# Altium footprint library PcbLib1.PcbLib: 64 footprints (part 4 of 4)
Each footprint in its own frame and in the unit in brackets; x right, y up, seen from the top. Pads: shape width x height; smd on the part's side, far side on the other; paste and mask are expansions set on the pad; w line width, h text height; cw(c..) or ccw(c..) is an arc to the next point about the centre after c.
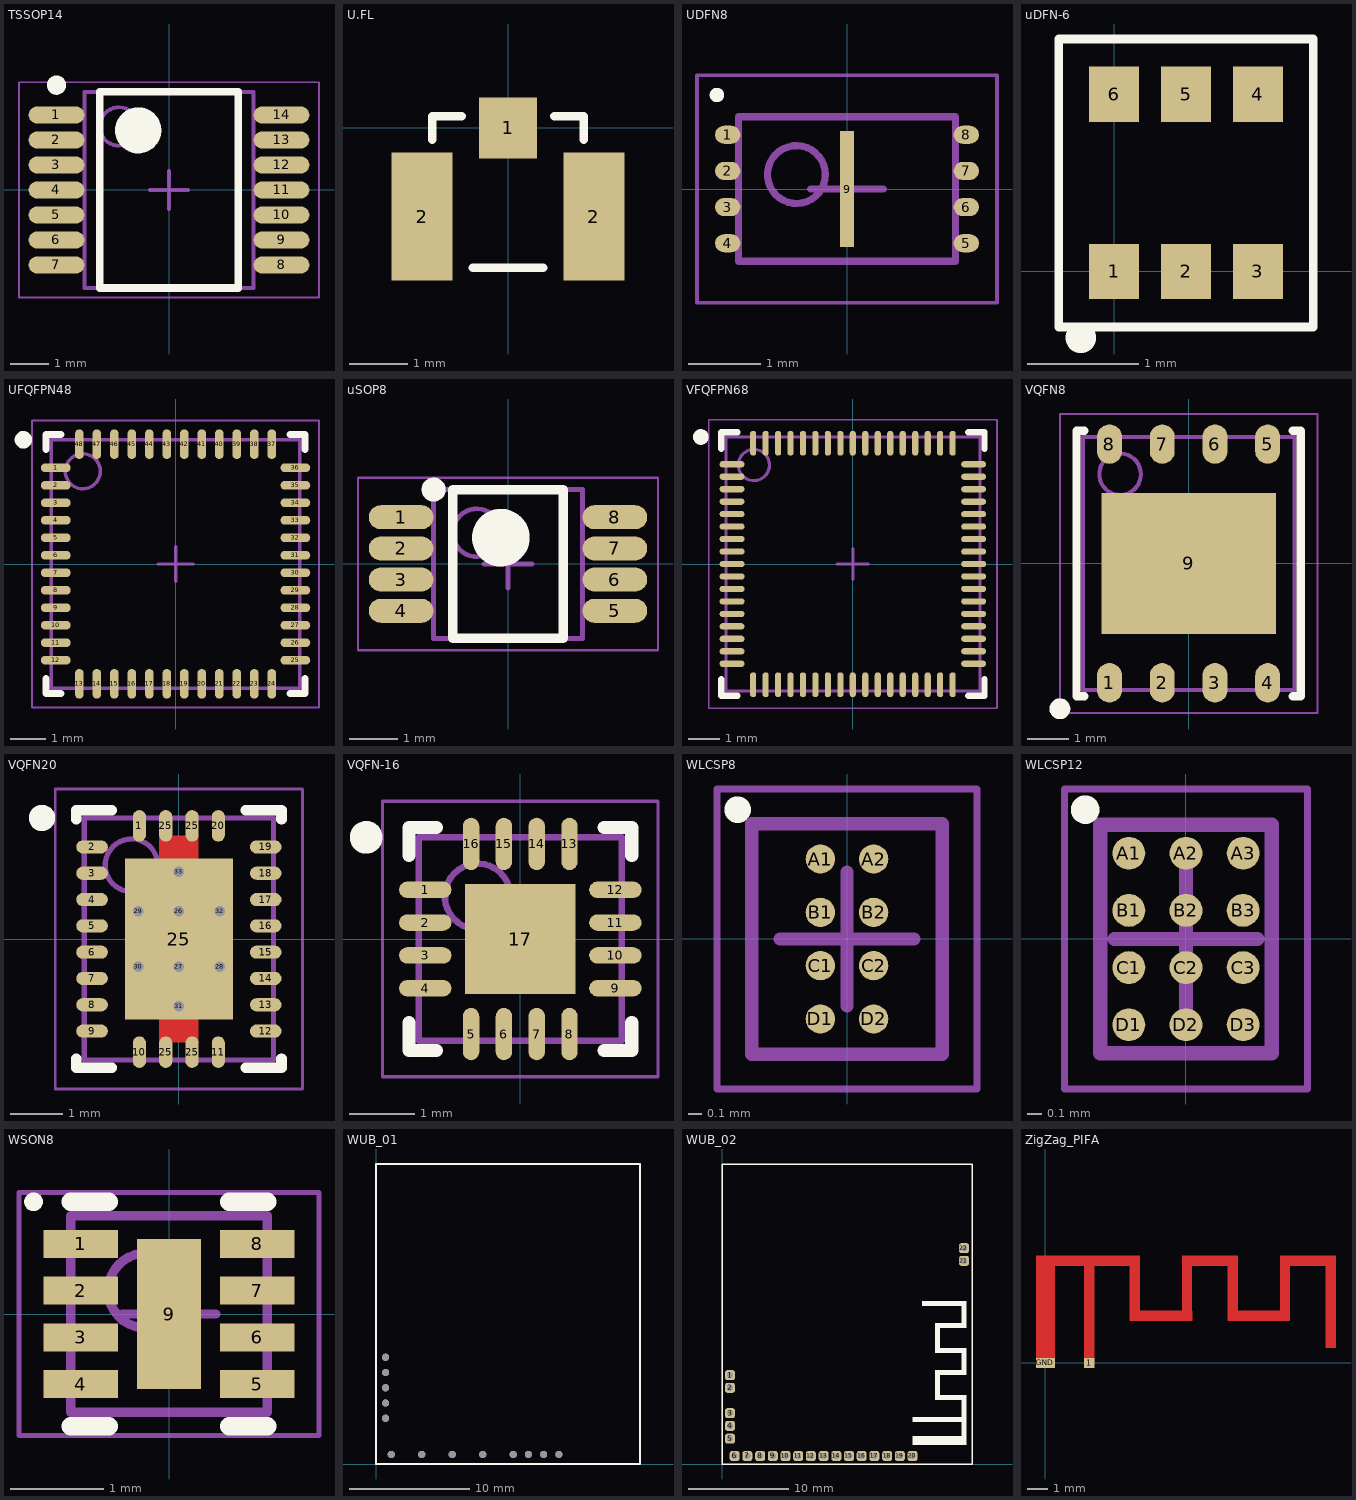
[diagram p3: the footprints below, top view; thin cyan lines are the x and y axes]

## TSSOP14 [mm] "TSSOP14"
height 1.1
pads (14):
  oval 1.45x0.45 smd: 1(-2.925,1.95) 2(-2.925,1.3) 3(-2.925,0.65) 4(-2.925,0) 5(-2.925,-0.65) 6(-2.925,-1.3) 7(-2.925,-1.95) 8(2.925,-1.95) 9(2.925,-1.3) 10(2.925,-0.65) 11(2.925,0) 12(2.925,0.65) 13(2.925,1.3) 14(2.925,1.95)
Top Overlay:
  circle w0.25: c-2.925,2.725 r0.125
  circle w0.6: c-0.8,1.55 r0.3
  lines w0.2: -1.8,-2.55 -1.8,2.55 1.8,2.55 1.8,-2.55 -1.8,-2.55
Mechanical 13:
  circle w0.1: c-1.3,1.65 r0.5
  lines w0.1: -2.2,-2.55 -2.2,2.55 2.2,2.55 2.2,-2.55 -2.2,-2.55
Mechanical 15:
  lines w0.05: -3.9,-2.8 -3.9,2.8 3.9,2.8 3.9,-2.8 -3.9,-2.8
  lines w0.1: -0.5,0 0.5,0 ; 0,-0.5 0,0.5
3D body: height 1.1, standoff 0.05, extent -2.2,-2.55 2.2,2.55

## U.FL [mm]
pads (3):
  rect 1x1.05 smd: 1(0,0)
  rect 1.05x2.2 smd: 2(-1.475,-1.525) 2(1.475,-1.525)
Top Overlay:
  lines w0.15: -1.3,-0.2 -1.3,0.2 -0.8,0.2 ; -0.6,-2.4 0.6,-2.4 ; 0.8,0.2 1.3,0.2 1.3,-0.2

## UDFN8 [mm]
height 0.55
pads (9):
  oval 0.35x0.25 smd: 1(-1.65,0.75) 2(-1.65,0.25) 3(-1.65,-0.25) 4(-1.65,-0.75) 5(1.65,-0.75) 6(1.65,-0.25) 7(1.65,0.25) 8(1.65,0.75)
  rect 0.2x1.6 smd: 9(0,0)
Top Overlay:
  circle w0.1: c-1.8,1.3 r0.05
Mechanical 13:
  circle w0.1: c-0.7,0.2 r0.4
  lines w0.1: -1.5,-1 1.5,-1 1.5,1 -1.5,1 -1.5,-1
Mechanical 15:
  lines w0.05: -2.075,-1.575 2.075,-1.575 2.075,1.575 -2.075,1.575 -2.075,-1.575
  lines w0.1: -0.5,0 0.5,0 ; 0,-0.5 0,0.5
3D body: height 0.55, standoff 0.02, extent -1.5,-1 1.5,1

## uDFN-6 [mm]
pads (6):
  rect 0.45x0.5 smd: 1(0,0) 2(0.65,0) 3(1.3,0) 4(1.3,1.6) 5(0.65,1.6) 6(0,1.6)
Top Overlay:
  circle w0.254: c-0.3,-0.6 r0.01
  lines w0.08: -0.5,-0.5 -0.5,2.1 1.8,2.1 1.8,-0.5 -0.5,-0.5

## UFQFPN48 [mm] "UFQFPN48"
height 0.55
pads (48):
  oval 0.85x0.25 smd: 1(-3.425,2.75) 2(-3.425,2.25) 3(-3.425,1.75) 4(-3.425,1.25) 5(-3.425,0.75) 6(-3.425,0.25) 7(-3.425,-0.25) 8(-3.425,-0.75) 9(-3.425,-1.25) 10(-3.425,-1.75) 11(-3.425,-2.25) 12(-3.425,-2.75) 25(3.425,-2.75) 26(3.425,-2.25) 27(3.425,-1.75) 28(3.425,-1.25) 29(3.425,-0.75) 30(3.425,-0.25) 31(3.425,0.25) 32(3.425,0.75) 33(3.425,1.25) 34(3.425,1.75) 35(3.425,2.25) 36(3.425,2.75)
  oval 0.25x0.85 smd: 13(-2.75,-3.425) 14(-2.25,-3.425) 15(-1.75,-3.425) 16(-1.25,-3.425) 17(-0.75,-3.425) 18(-0.25,-3.425) 19(0.25,-3.425) 20(0.75,-3.425) 21(1.25,-3.425) 22(1.75,-3.425) 23(2.25,-3.425) 24(2.75,-3.425) 37(2.75,3.425) 38(2.25,3.425) 39(1.75,3.425) 40(1.25,3.425) 41(0.75,3.425) 42(0.25,3.425) 43(-0.25,3.425) 44(-0.75,3.425) 45(-1.25,3.425) 46(-1.75,3.425) 47(-2.25,3.425) 48(-2.75,3.425)
Top Overlay:
  circle w0.25: c-4.35,3.55 r0.125
  lines w0.2: -3.7,-3.275 -3.7,-3.7 -3.275,-3.7 ; -3.7,3.275 -3.7,3.7 -3.275,3.7 ; 3.275,-3.7 3.7,-3.7 3.7,-3.275 ; 3.275,3.7 3.7,3.7 3.7,3.275
Mechanical 13:
  circle w0.1: c-2.65,2.65 r0.5
  lines w0.1: -3.55,-3.55 -3.55,3.55 3.55,3.55 3.55,-3.55 -3.55,-3.55
Mechanical 15:
  lines w0.05: -4.1,-4.1 -4.1,4.1 4.1,4.1 4.1,-4.1 -4.1,-4.1
  lines w0.1: -0.5,0 0.5,0 ; 0,-0.5 0,0.5
3D body: height 0.55, standoff 0.02, extent -3.55,-3.55 3.55,3.55

## uSOP8 [mm]
height 1.1
pads (8):
  oval 1.35x0.5 smd: 1(-2.225,0.975) 2(-2.225,0.325) 3(-2.225,-0.325) 4(-2.225,-0.975) 5(2.225,-0.975) 6(2.225,-0.325) 7(2.225,0.325) 8(2.225,0.975)
Top Overlay:
  circle w0.6: c-0.15,0.55 r0.3
  circle w0.25: c-1.55,1.55 r0.125
  lines w0.2: -1.15,-1.55 1.15,-1.55 1.15,1.55 -1.15,1.55 -1.15,-1.55
Mechanical 13:
  circle w0.1: c-0.65,0.65 r0.5
  lines w0.1: -1.55,-1.55 1.55,-1.55 1.55,1.55 -1.55,1.55 -1.55,-1.55
Mechanical 15:
  lines w0.05: -3.125,-1.8 3.125,-1.8 3.125,1.8 -3.125,1.8 -3.125,-1.8
  lines w0.1: -0.5,0 0.5,0 ; 0,-0.5 0,0.5
3D body: height 1.1, standoff 0.15, extent -1.55,-1.55 1.55,1.55

## VFQFPN68 [mm] "VFQFPN68"
height 0.9
pads (68):
  oval 0.8x0.2 smd: 1(-3.875,3.2) 2(-3.875,2.8) 3(-3.875,2.4) 4(-3.875,2) 5(-3.875,1.6) 6(-3.875,1.2) 7(-3.875,0.8) 8(-3.875,0.4) 9(-3.875,0) 10(-3.875,-0.4) 11(-3.875,-0.8) 12(-3.875,-1.2) 13(-3.875,-1.6) 14(-3.875,-2) 15(-3.875,-2.4) 16(-3.875,-2.8) 17(-3.875,-3.2) 35(3.875,-3.2) 36(3.875,-2.8) 37(3.875,-2.4) 38(3.875,-2) 39(3.875,-1.6) 40(3.875,-1.2) 41(3.875,-0.8) 42(3.875,-0.4) 43(3.875,0) 44(3.875,0.4) 45(3.875,0.8) 46(3.875,1.2) 47(3.875,1.6) 48(3.875,2) 49(3.875,2.4) 50(3.875,2.8) 51(3.875,3.2)
  oval 0.2x0.8 smd: 18(-3.2,-3.875) 19(-2.8,-3.875) 20(-2.4,-3.875) 21(-2,-3.875) 22(-1.6,-3.875) 23(-1.2,-3.875) 24(-0.8,-3.875) 25(-0.4,-3.875) 26(0,-3.875) 27(0.4,-3.875) 28(0.8,-3.875) 29(1.2,-3.875) 30(1.6,-3.875) 31(2,-3.875) 32(2.4,-3.875) 33(2.8,-3.875) 34(3.2,-3.875) 52(3.2,3.875) 53(2.8,3.875) 54(2.4,3.875) 55(2,3.875) 56(1.6,3.875) 57(1.2,3.875) 58(0.8,3.875) 59(0.4,3.875) 60(0,3.875) 61(-0.4,3.875) 62(-0.8,3.875) 63(-1.2,3.875) 64(-1.6,3.875) 65(-2,3.875) 66(-2.4,3.875) 67(-2.8,3.875) 68(-3.2,3.875)
Top Overlay:
  circle w0.25: c-4.875,4.075 r0.125
  lines w0.2: -4.225,-3.7 -4.225,-4.225 -3.7,-4.225 ; -4.225,3.7 -4.225,4.225 -3.7,4.225 ; 3.7,-4.225 4.225,-4.225 4.225,-3.7 ; 3.7,4.225 4.225,4.225 4.225,3.7
Mechanical 13:
  circle w0.1: c-3.175,3.175 r0.5
  lines w0.1: -4.075,-4.075 4.075,-4.075 4.075,4.075 -4.075,4.075 -4.075,-4.075
Mechanical 15:
  lines w0.05: -4.625,-4.625 4.625,-4.625 4.625,4.625 -4.625,4.625 -4.625,-4.625
  lines w0.1: -0.5,0 0.5,0 ; 0,-0.5 0,0.5
3D body: height 0.9, standoff 0.02, extent -4.075,-4.075 4.075,4.075

## VQFN8 [mm] "VQFN8"
height 0.9
pads (9):
  oval 0.6x0.95 smd: 1(-1.905,-2.875) 2(-0.635,-2.875) 3(0.635,-2.875) 4(1.905,-2.875) 5(1.905,2.875) 6(0.635,2.875) 7(-0.635,2.875) 8(-1.905,2.875)
  rect 4.2x3.4 smd: 9(0,0)
Top Overlay:
  circle w0.25: c-3.1,-3.5 r0.125
  lines w0.2: -2.7,-0.035 -2.7,3.2 -2.505,3.2 ; -2.7,0.035 -2.7,-3.2 -2.505,-3.2 ; 2.505,-3.2 2.7,-3.2 2.7,0.035 ; 2.505,3.2 2.7,3.2 2.7,-0.035
Mechanical 13:
  circle w0.1: c-1.65,2.15 r0.5
  lines w0.1: -2.55,-3.05 2.55,-3.05 2.55,3.05 -2.55,3.05 -2.55,-3.05
Mechanical 15:
  lines w0.05: -3.1,-3.6 3.1,-3.6 3.1,3.6 -3.1,3.6 -3.1,-3.6
  lines w0.1: -0.5,0 0.5,0 ; 0,-0.5 0,0.5
3D body: height 0.9, standoff 0.05, extent -2.55,-3.05 2.55,3.05

## VQFN20 [mm] "VQFN20"
height 1
pads (33):
  oval 0.25x0.6 smd: 1(-0.75,2.15) 10(-0.75,-2.15) 11(0.75,-2.15) 20(0.75,2.15) 25(-0.25,-2.15) 25(-0.25,2.15) 25(0.25,-2.15) 25(0.25,2.15)
  oval 0.6x0.25 smd: 2(-1.65,1.75) 3(-1.65,1.25) 4(-1.65,0.75) 5(-1.65,0.25) 6(-1.65,-0.25) 7(-1.65,-0.75) 8(-1.65,-1.25) 9(-1.65,-1.75) 12(1.65,-1.75) 13(1.65,-1.25) 14(1.65,-0.75) 15(1.65,-0.25) 16(1.65,0.25) 17(1.65,0.75) 18(1.65,1.25) 19(1.65,1.75)
  rect 2.05x3.05 smd: 25(0,0)
  round 0.2 hole 0.2: 26(0,0.525) 27(0,-0.525) 28(0.775,-0.525) 29(-0.775,0.525) 30(-0.775,-0.525) 31(0,-1.275) 32(0.775,0.525) 33(0,1.275)
Top Layer:
  region: -0.376,1.498 -0.376,1.965 0.371,1.965 0.371,1.498
  region: 0.373,-1.515 0.373,-1.965 -0.375,-1.965 -0.375,-1.512 -0.377,-1.51
  pour cut-out: -0.377,-1.51
Top Overlay:
  circle w0.25: c-2.6,2.3 r0.125
  lines w0.2: -1.95,-2.275 -1.95,-2.45 -1.275,-2.45 ; -1.95,2.275 -1.95,2.45 -1.275,2.45 ; 1.275,-2.45 1.95,-2.45 1.95,-2.275 ; 1.275,2.45 1.95,2.45 1.95,2.275
Mechanical 13:
  circle w0.1: c-0.9,1.4 r0.5
  lines w0.1: -1.8,-2.3 1.8,-2.3 1.8,2.3 -1.8,2.3 -1.8,-2.3
Mechanical 15:
  lines w0.05: -2.35,-2.85 2.35,-2.85 2.35,2.85 -2.35,2.85 -2.35,-2.85
  lines w0.1: -0.5,0 0.5,0 ; 0,-0.5 0,0.5
3D body: height 1, standoff 0.08, extent -1.8,-2.3 1.8,2.3

## VQFN-16 [mm] "VQFN-16"
height 1
pads (17):
  oval 0.8x0.25 smd: 1(-1.45,0.75) 2(-1.45,0.25) 3(-1.45,-0.25) 4(-1.45,-0.75) 9(1.45,-0.75) 10(1.45,-0.25) 11(1.45,0.25) 12(1.45,0.75)
  oval 0.25x0.8 smd: 5(-0.75,-1.45) 6(-0.25,-1.45) 7(0.25,-1.45) 8(0.75,-1.45) 13(0.75,1.45) 14(0.25,1.45) 15(-0.25,1.45) 16(-0.75,1.45)
  rect 1.68x1.68 smd: 17(0,0)
Top Overlay:
  circle w0.25: c-2.35,1.55 r0.125
  lines w0.2: -1.7,-1.275 -1.7,-1.7 -1.275,-1.7 ; -1.7,1.275 -1.7,1.7 -1.275,1.7 ; 1.275,-1.7 1.7,-1.7 1.7,-1.275 ; 1.275,1.7 1.7,1.7 1.7,1.275
Mechanical 13:
  circle w0.1: c-0.65,0.65 r0.5
  lines w0.1: -1.55,-1.55 1.55,-1.55 1.55,1.55 -1.55,1.55 -1.55,-1.55
Mechanical 15:
  lines w0.05: -2.1,-2.1 2.1,-2.1 2.1,2.1 -2.1,2.1 -2.1,-2.1
  lines w0.1: -0.5,0 0.5,0 ; 0,-0.5 0,0.5
3D body: height 1, standoff 0.05, extent -1.55,-1.55 1.55,1.55

## WLCSP8 [mm]
height 0.44
pads (8):
  round 0.22 smd: A1(-0.2,0.6) A2(0.2,0.6) B1(-0.2,0.2) B2(0.2,0.2) C1(-0.2,-0.2) C2(0.2,-0.2) D1(-0.2,-0.6) D2(0.2,-0.6)
Top Overlay:
  circle w0.1: c-0.82,0.97 r0.05
Mechanical 13:
  lines w0.1: -0.715,-0.865 -0.715,0.865 0.715,0.865 0.715,-0.865 -0.715,-0.865
Mechanical 15:
  lines w0.05: -0.975,-1.125 -0.975,1.125 0.975,1.125 0.975,-1.125 -0.975,-1.125
  lines w0.1: -0.5,0 0.5,0 ; 0,-0.5 0,0.5
3D body: height 0.44, standoff 0.13, extent -0.715,-0.865 0.715,0.865

## WLCSP12 [mm] "BGA, 12-Leads, Body 1,20x1,60mmx0,60mm, Pitch 0,40mm"
height 0.6
pads (12):
  round 0.23 smd: A1(-0.4,0.6) A2(0,0.6) A3(0.4,0.6) B1(-0.4,0.2) B2(0,0.2) B3(0.4,0.2) C1(-0.4,-0.2) C2(0,-0.2) C3(0.4,-0.2) D1(-0.4,-0.6) D2(0,-0.6) D3(0.4,-0.6)
Top Overlay:
  circle w0.1: c-0.705,0.905 r0.05
Mechanical 13:
  lines w0.1: -0.6,-0.8 -0.6,0.8 0.6,0.8 0.6,-0.8 -0.6,-0.8
Mechanical 15:
  lines w0.05: -0.85,-1.05 -0.85,1.05 0.85,1.05 0.85,-1.05 -0.85,-1.05
  lines w0.1: -0.5,0 0.5,0 ; 0,-0.5 0,0.5
3D body: height 0.6, standoff 0.23, extent -0.6,-0.8 0.6,0.8

## WSON8 [mm] "WSON8"
height 0.8
pads (9):
  rect 0.8x0.3 smd: 1(-0.945,0.75) 2(-0.945,0.25) 3(-0.945,-0.25) 4(-0.945,-0.75) 5(0.945,-0.75) 6(0.945,-0.25) 7(0.945,0.25) 8(0.945,0.75)
  rect 0.69x1.6 smd: 9(0,0)
Top Overlay:
  circle w0.1: c-1.45,1.2 r0.05
  lines w0.2: -1.05,-1.2 -0.645,-1.2 ; -1.05,1.2 -0.645,1.2 ; 0.645,-1.2 1.05,-1.2 ; 0.645,1.2 1.05,1.2
Mechanical 13:
  circle w0.1: c-0.25,0.25 r0.4
  lines w0.1: -1.05,-1.05 1.05,-1.05 1.05,1.05 -1.05,1.05 -1.05,-1.05
Mechanical 15:
  lines w0.05: -1.605,-1.3 1.605,-1.3 1.605,1.3 -1.605,1.3 -1.605,-1.3
  lines w0.1: -0.5,0 0.5,0 ; 0,-0.5 0,0.5
3D body: height 0.8, standoff 0.08, extent -1.05,-1.05 1.05,1.05

## WUB_01 [mm]
pads (13):
  round 0.6 hole 0.6: 1(0.8,8.89) 2(0.8,7.62) 3(0.8,6.35) 4(0.8,5.08) 5(0.8,3.81) 6(1.27,0.8) 7(3.81,0.8) 8(6.35,0.8) 9(8.89,0.8) 10(11.43,0.8) 11(12.7,0.8) 12(13.97,0.8) 13(15.24,0.8)
Top Overlay:
  lines w0.15: 0,0 22,0 22,25 0,25 0,0
Multi-Layer:
  rectangle: 0.3,8.39 1.3,9.39
  rectangle: 0.3,7.12 1.3,8.12
  rectangle: 0.3,5.85 1.3,6.85
  rectangle: 0.3,4.58 1.3,5.58
  rectangle: 0.3,3.31 1.3,4.31
  region: 1.77,0.3 1.77,1.3 0.77,1.3 0.77,0.3
  region: 4.31,0.3 4.31,1.3 3.31,1.3 3.31,0.3
  region: 6.8,0.3 6.8,1.3 5.8,1.3 5.8,0.3
  region: 9.39,0.3 9.39,1.3 8.39,1.3 8.39,0.3
  region: 11.93,0.3 11.93,1.3 10.93,1.3 10.93,0.3
  region: 13.2,0.3 13.2,1.3 12.2,1.3 12.2,0.3
  region: 14.47,0.3 14.47,1.3 13.47,1.3 13.47,0.3
  region: 15.74,0.3 15.74,1.3 14.74,1.3 14.74,0.3

## WUB_02 [mm]
pads (24):
  rrect50% 1x1 hole 0.6: 1(0.8,8.89) 2(0.8,7.62) 3(0.8,5.08) 4(0.8,3.81) 5(0.8,2.54) 6(1.27,0.8) 7(2.54,0.8) 8(3.81,0.8) 9(5.08,0.8) 10(6.35,0.8) 11(7.62,0.8) 12(8.89,0.8) 13(10.16,0.8) 14(11.43,0.8) 15(12.7,0.8) 16(13.97,0.8) 17(15.24,0.8) 18(16.51,0.8) 19(17.78,0.8) 20(19.05,0.8) 21(24.2,20.32) 22(24.2,21.59)
  rect 0.5x0.5 on Top Overlay: 1(19.28,4.44)
  rect 0.5x0.9 on Top Overlay: GND(19.28,2.34)
Top Overlay:
  region: 24.43,11.09 24.43,11.59 23.93,11.59 23.93,11.09
  region: 21.79,11.09 21.79,11.59 21.29,11.59 21.29,11.09
  region: 24.43,15.79 24.43,16.29 23.93,16.29 23.93,15.79
  region: 24.43,13.59 24.43,14.1 23.93,14.1 23.93,13.59
  region: 24.43,8.89 24.43,9.39 23.93,9.39 23.93,8.89
  region: 24.43,6.39 24.43,6.89 23.93,6.89 23.93,6.39
  region: 24.43,1.89 24.43,2.79 23.93,2.79 23.93,1.89
  region: 21.79,13.59 21.79,14.09 21.29,14.09 21.29,13.59
  region: 21.79,8.89 21.79,9.39 21.29,9.39 21.29,8.89
  region: 21.79,6.39 21.79,6.89 21.29,6.89 21.29,6.39
  region: 20.24,15.79 20.24,16.29 19.99,16.29 19.99,15.79
  lines w0.15: 0,0 25,0 25,30 0,30 0,0
  lines w0.5: 19.28,4.44 24.147,4.44 ; 20.24,16.04 24.18,16.04 24.18,13.84 21.54,13.84 21.54,11.34 24.18,11.34 24.18,9.14 21.54,9.14 21.54,6.64 24.18,6.64 24.18,2.34
  lines w0.9: 19.482,2.34 23.98,2.34

## ZigZag_PIFA [mm]
pads (2):
  rect 0.5x0.5 smd: 1(2.1,0)
  rect 0.9x0.5 smd: GND(0,0)
Top Layer:
  rectangle: -0.45,4.65 0.45,5.15
  rectangle: 4.05,4.65 4.55,5.15
  rectangle: 4.05,2.01 4.55,2.51
  rectangle: 6.55,2.01 7.05,2.51
  rectangle: 6.55,4.65 7.05,5.15
  rectangle: 8.75,4.65 9.25,5.15
  rectangle: 8.75,2.01 9.25,2.51
  rectangle: 11.25,2.01 11.75,2.51
  rectangle: 11.25,4.65 11.76,5.15
  rectangle: 13.45,4.65 13.95,5.15
  rectangle: 13.45,0.71 13.95,0.96
  lines w0.5: 0,4.9 4.3,4.9 4.3,2.26 6.8,2.26 6.8,4.9 9,4.9 9,2.26 11.5,2.26 11.5,4.9 13.7,4.9 13.7,0.96 ; 2.1,0 2.1,4.867
  lines w0.9: 0,0.202 0,4.7